# Altium schematic symbol library RES_3PIN.SchLib: 1 symbol
Pins are listed as number, name and electrical type; pins without a type are passive.

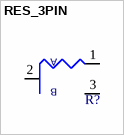
[diagram p0: symbol RES_3PIN]

## RES_3PIN
designator R?
RES MF ZERO OHM 1/10W -- 0603
pins: 1, 2, 3
text: A; B